# EAGLE library part I__4517 (library ..SMD)
Dual 64-bit static REGISTER
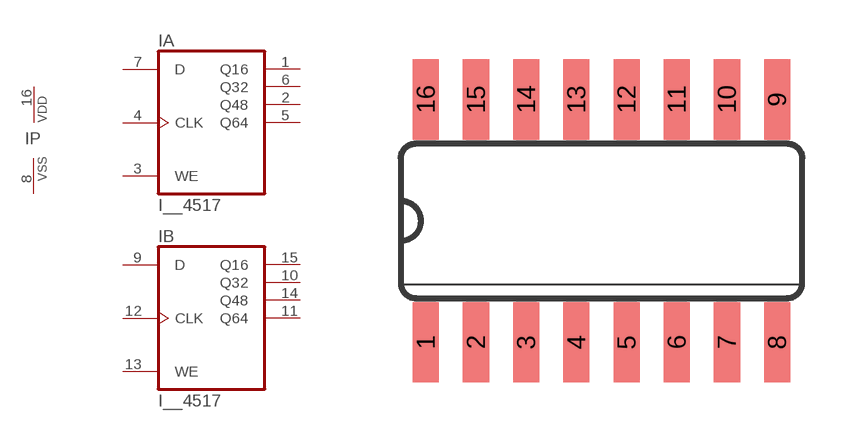
[diagram p104: symbol with the pads of SO16; footprint SO16]

Designator prefix I; gates A=4517 B=4517 P=PWRN

## I__4517  [SO16]
1  A:Q16  out
2  A:Q48  out
3  A:WE  in
4  A:CLK  in
5  A:Q64  out
6  A:Q32  out
7  A:D  in
8  P:VSS  pwr
9  B:D  in
10  B:Q32  out
11  B:Q64  out
12  B:CLK  in
13  B:WE  in
14  B:Q48  out
15  B:Q16  out
16  P:VDD  pwr

## Footprint SO16 (pad centres in mm)
Small Outline Package 16
smd 0.66 x 2.032: 1 -4.445,-3.073; 2 -3.175,-3.073; 3 -1.905,-3.073; 4 -0.635,-3.073; 5 0.635,-3.073; 6 1.905,-3.073; 7 3.175,-3.073; 8 4.445,-3.073; 9 4.445,3.073; 10 3.175,3.073; 11 1.905,3.073; 12 0.635,3.073; 13 -0.635,3.073; 14 -1.905,3.073; 15 -3.175,3.073; 16 -4.445,3.073